# Altium schematic symbol library TNY25x.SchLib: 1 symbol
Pins are listed as number, name and electrical type; pins without a type are passive.

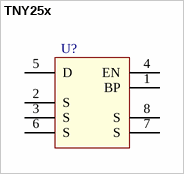
[diagram p0: symbol TNY25x]

## TNY25x
designator U?  (value not drawn)
footprint DIP-8 (DIP; 8 Leads; Row Spacing 7.62 mm; Pitch 2.54 mm)
pins: 1 BP, 2 S, 3 S, 4 EN, 5 D, 6 S, 7 S, 8 S